# Altium schematic symbol library LINUX.SchLib: 132 symbols (part 3 of 4)
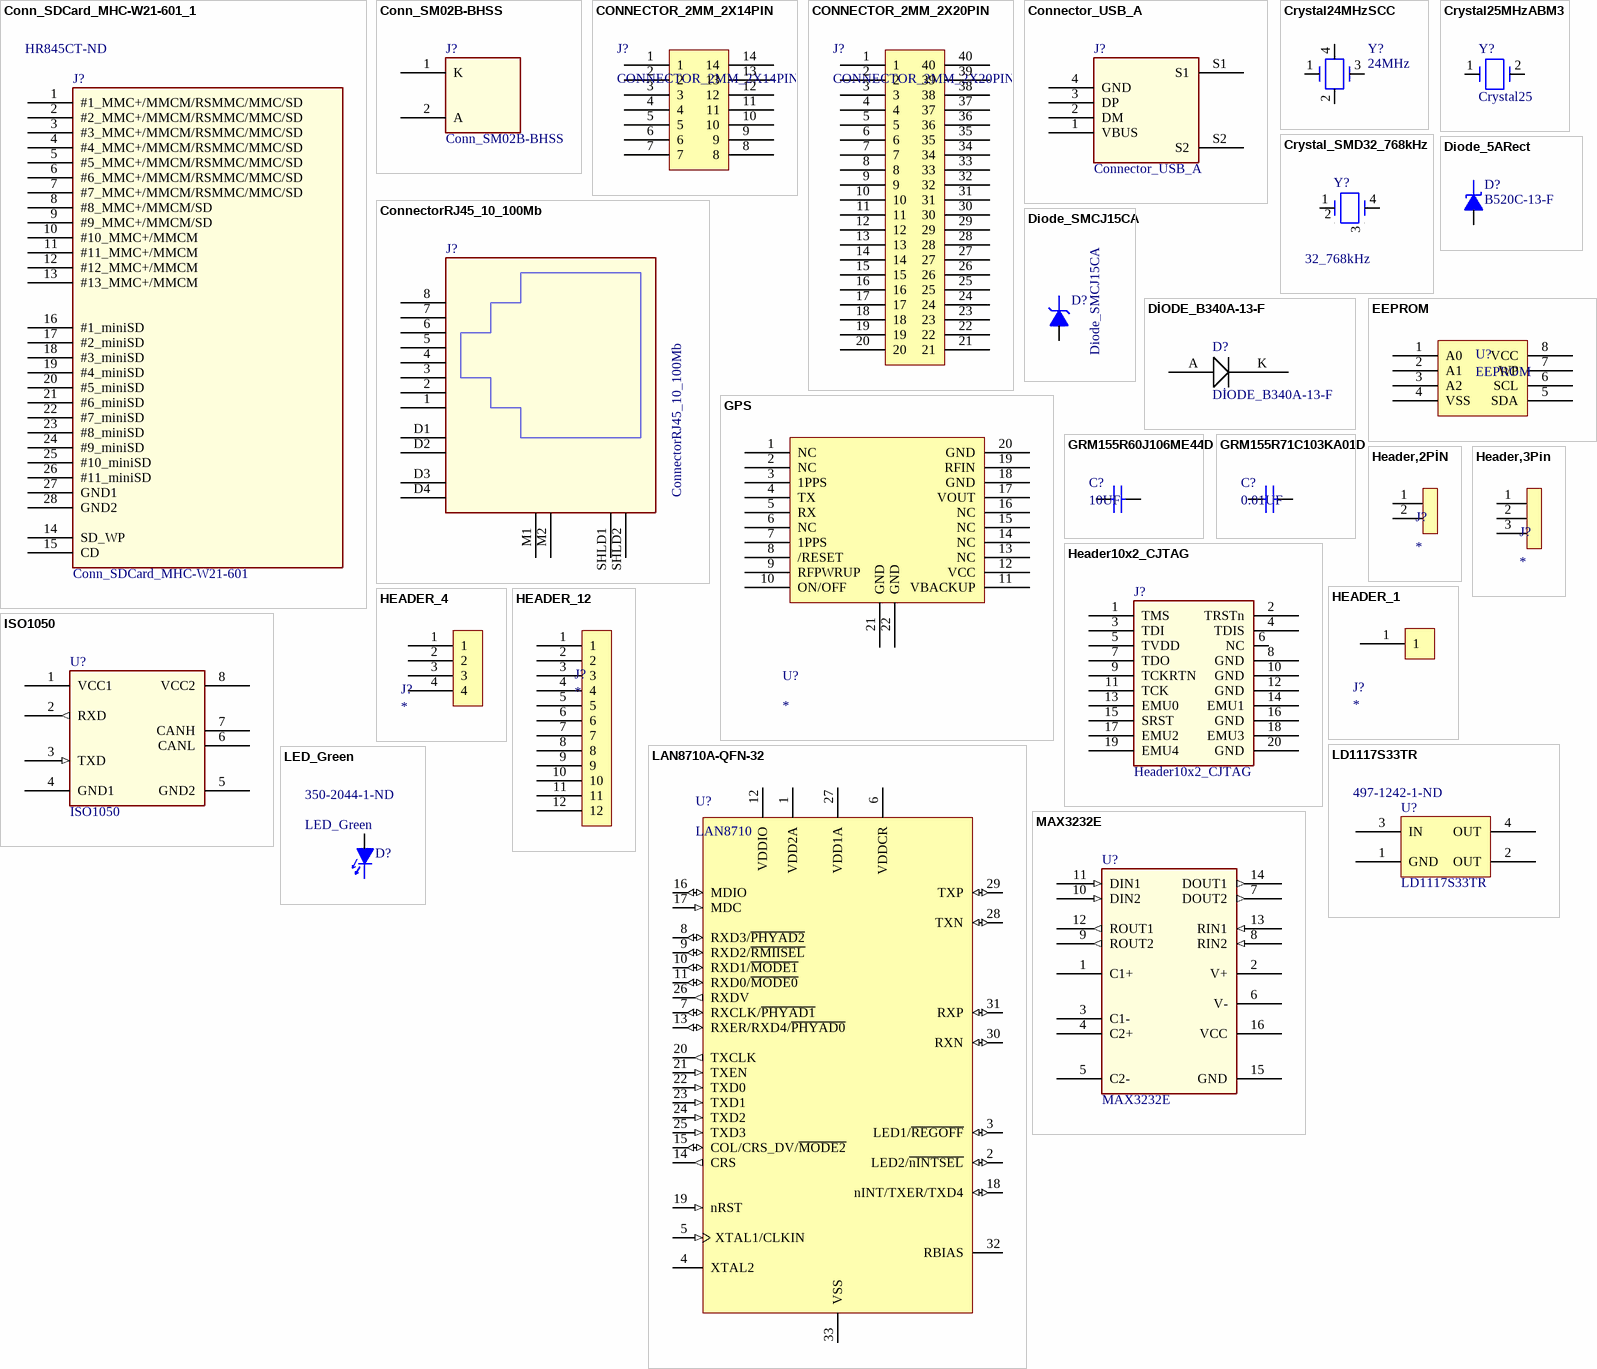
[diagram p9: symbols Conn_SDCard_MHC-W21-601_1 to MAX3232E]

## DİODE_B340A-13-F
designator D?
MULTICOMP - B340A-13-F - DIODE, RECTIFIER, 3A, 40V, DO-214AC; Diode Type: Schottky; Voltage - Forward (Vf) (Max) @ If: 500mV @ 3A; Speed: Fast Recovery =< 500ns, > 200mA (Io); Current - Reverse Leakage @ Vr: 500µA @ 40V; Capacitance @ Vr, F: 200pF @ 4V, 1MHz; Manufacturer: MULTICOMP; Manufacturer Part Number: B340A-13-F; RoHS: YES; ComponentLink1URL: http://www.farnell.com/datasheets/1693726.pdf; ComponentLink1Description: http://www.farnell.com/datasheets/1693726.pdf; Supplier 1: Digi-Key; Category: Discrete Semiconductor Products; Stock 1: 269603; Pricing 1: 1=0.47, 10=0.368, 25=0.31, 100=0.2527, 250=0.20932, 500=0.1729, 1000=0.1295, 2500=0.119 (USD); Packaging: Cut Tape (CT); Voltage - DC Reverse (Vr) (Max): 40V; Current - Average Rectified (Io): 3A; Reverse Recovery Time (trr): -; Mounting Type: Surface Mount; Package / Case: DO-214AC, SMA; Supplier Device Package: SMA; Operating Temperature - Junction: -55°C ~ 150°C; ComponentLink2URL: http://www.diodes.com/datasheets/ds30891.pdf; ComponentLink2Description: http://www.diodes.com/datasheets/ds30891.pdf; Supplier Part Number 1: B340A-FDICT-ND
footprint Diode
pins: A, K

## EEPROM
designator U?
Manufacturer: ON Semiconductor; Manufacturer Part Number: CAT24C256WI-GT3; Format - Memory: EEPROMs - Serial; Memory Size: 256K (32K x 8); Speed: 400kHz; Interface: I²C, 2-Wire Serial; Voltage - Supply: 1.8 V ~ 5.5 V; Supplier 1: Digi-Key; RoHS: RoHS Compliant; Category: Integrated Circuits (ICs); Stock 1: 33600; Pricing 1: 1=0.73, 10=0.616, 25=0.5396, 100=0.462, 250=0.40068, 500=0.33936, 1000=0.26163 (USD); Packaging: Cut Tape (CT); Memory Type: EEPROM; Operating Temperature: -40°C ~ 85°C; Package / Case: 8-SOIC (0.154", 3.90mm Width); Supplier Device Package: 8-SOIC; ComponentLink1URL: http://www.onsemi.com/pub_link/Collateral/CAT24C256-D.PDF; ComponentLink1Description: http://www.onsemi.com/pub_link/Collateral/CAT24C256-D.PDF; Supplier Part Number 1: CAT24C256WI-GT3OSCT-ND
footprint SOIC-8
pins: 1 A0, 2 A1, 3 A2, 4 VSS, 5 SDA, 6 SCL, 7 WP, 8 VCC

## GPS
designator U?
GPS; Supplier 1: Digi-Key; Supplier Part Number 1: RXM-GPS-R4-TCT-ND
footprint GPS
pins: 1 NC, 2 NC, 3 1PPS, 4 TX, 5 RX, 6 NC, 7 1PPS, 8 /RESET, 9 RFPWRUP, 10 ON/OFF, 11 VBACKUP, 12 VCC, 13 NC, 14 NC, 15 NC, 16 NC, 17 VOUT, 18 GND, 19 RFIN, 20 GND, 21 GND, 22 GND

## GRM155R60J106ME44D
designator C?, comment 10UF
Multilayer Ceramic Capacitors MLCC - SMD/SMT 10UF 6.3V 20% 0402; Manufacturer: Murata Electronics; Manufacturer Part Number: GRM155R60J106ME44D; Type: General Purpose MLCC; Case Height: 0.5 mm; Case Length: 1 mm; Dielectric: X5R; Temperature Coefficient / Code: +/- 15 %; Product Status: New at Mouser; Supplier 1: Mouser; Category: Multilayer Ceramic Capacitors MLCC - SMD/SMT; Stock 1: 560073; Pricing 1: 1=0.446, 10=0.304, 100=0.228, 500=0.224, 1000=0.216, 5000=0.208, 10000=0.157 (AUD); Capacitance: 10 uF; Operating Temperature Range: - 55 C to + 85 C; Package / Case: 0402 (1005 metric); Packaging: Reel; Product: General Type MLCCs; Series: GRM; Termination Style: SMD/SMT; Tolerance: 20 %; Voltage Rating DC: 6.3 V; Brand: Murata Electronics; Case Code - in: 0402; Case Code - mm: 1005; Case Width: 0.5 mm; Maximum Operating Temperature: + 85 C; Minimum Operating Temperature: - 55 C; Standard Pack Qty: 10000; Minimum Order Quantity: 1; Reeling: True; ComponentLink1URL: http://www.murata.com/products/catalog/pdf/c02e.pdf; ComponentLink1Description: http://www.murata.com/products/catalog/pdf/c02e.pdf; Supplier Part Number 1: 81-GRM155R60J106ME4D
footprint 0402
pins: 1, 2

## GRM155R71C103KA01D
designator C?, comment 0.01UF
Multilayer Ceramic Capacitors MLCC - SMD/SMT 0402 0.01uF 16volts X7R 10%; Manufacturer: Murata Electronics; Manufacturer Part Number: GRM155R71C103KA01D; Type: General Purpose MLCC; Voltage Rating DC: 16 V; Case Height: 0.5 mm; Case Length: 1 mm; Temperature Coefficient / Code: +/- 15 %; Supplier 1: Mouser; RoHS: RoHS Compliant; Category: Multilayer Ceramic Capacitors MLCC - SMD/SMT; Stock 1: 784820; Pricing 1: 1=0.135, 10=0.009, 100=0.005, 2500=0.004, 10000=0.004, 20000=0.003 (AUD); Capacitance: 0.01 uF; Operating Temperature Range: - 55 C to + 125 C; Package / Case: 0402 (1005 metric); Packaging: Reel; Product: General Type MLCCs; Series: GRM; Termination Style: SMD/SMT; Tolerance: 10 %; Brand: Murata Electronics; Case Code - in: 0402; Case Code - mm: 1005; Case Width: 0.5 mm; Dielectric: X7R; Maximum Operating Temperature: + 125 C; Minimum Operating Temperature: - 55 C; Product Category: Low & Medium Capacitance SMD Ceramic Chip Capacitors; Standard Pack Qty: 10000; RoHS - Mouser: Y; Minimum Order Quantity: 1; Reeling: True; ComponentLink1URL: http://www.murata.com/products/catalog/pdf/c02e.pdf; ComponentLink1Description: http://www.murata.com/products/catalog/pdf/c02e.pdf; Supplier Part Number 1: 81-GRM36X103K16
footprint 0402
pins: 1, 2

## Header10x2_CJTAG
designator J?
Dual Line Header 10x2pin Tin; TIIntPartnumber: 2H0039; MfrNum: FTR-110-03-G-D-06; PartName: HEADERCTIJTAG10x2Pin; Cost10K: 0.97; Cost100: 1.20; Vendor: Samtec; DescriptiveText: Dual Line Header 10x2pin Tin; Mfr: Samtec; Descriptive_Text: Dual Line Header 10x2pin Tin
footprint HEADER10X2
pins: 1 TMS, 2 TRSTn, 3 TDI, 4 TDIS, 5 TVDD, 6 NC, 7 TDO, 8 GND (power), 9 TCKRTN, 10 GND (power), 11 TCK, 12 GND (power), 13 EMU0, 14 EMU1, 15 SRST, 16 GND (power), 17 EMU2, 18 EMU3, 19 EMU4, 20 GND (power)

## Header,2PİN
designator J?
footprint C0603
pins: 1, 2

## Header,3Pin
designator J?
footprint C0603-3
pins: 1, 2, 3

## HEADER_1
designator J?
footprint HEADER_1
pins: 1

## HEADER_4
designator J?
footprint HEADER_4
pins: 1, 2, 3, 4

## HEADER_12
designator J?
footprint HEADER_12
pins: 1, 2, 3, 4, 5, 6, 7, 8, 9, 10, 11, 12

## ISO1050
designator U?
Isolated CAN Transceiver; TIIntPartnumber: 1A0214; MfrNum: ISO1050DUB; Mfr: TI; Manufacturer: Texas Instruments; Cost10K: 1.91; Cost100: 3.41; Vendor: Digikey; Number of Drivers/Receivers: 1/1; Duplex: Half; Receiver Hysteresis: 150mV; Data Rate: 1Mbps; Voltage - Supply: 3 V ~ 5.5 V; Descriptive_Text: Isolated CAN Transceiver; PartName: ISO1050; DescriptiveText: Isolated CAN Transceiver; Supplier 1: Digi-Key; Manufacturer Part Number: ISO1050DUB; RoHS: RoHS Compliant; Category: Integrated Circuits (ICs); Stock 1: 3315; Pricing 1: 1=5.8, 10=5.175, 25=4.6576, 100=4.2435, 250=3.82952, 500=3.4362, 750=3.105, 1000=2.5875 (USD); Packaging: Tube; Type: Transceiver; Protocol: CAN; Operating Temperature: -55°C ~ 105°C; Mounting Type: Surface Mount; Package / Case: 8-SMD, Gull Wing; Supplier Device Package: 8-SOP; ComponentLink1URL: http://www.ti.com/lit/ds/symlink/iso1050.pdf; ComponentLink1Description: http://www.ti.com/lit/ds/symlink/iso1050.pdf; Supplier Part Number 1: 296-33295-5-ND
footprint so8_w_dub (SO8_W_DUB)
pins: 1 VCC1 (power), 2 RXD (out), 3 TXD (in), 4 GND1 (power), 5 GND2 (power), 6 CANL, 7 CANH, 8 VCC2 (power)

## LAN8710A-QFN-32
designator U?, comment LAN8710
Manufacturer: Microchip Technology; Manufacturer Part Number: LAN8710AI-EZK; Ethernet Connection Type: 10/100 Base-T; Standard Supported: 802.3, 802.3u; Supply Voltage - Max: 3.6 V; Supply Voltage - Min: 1.6 V; Supplier 1: Mouser; RoHS: RoHS Compliant; Category: Ethernet ICs; Stock 1: 10327; Pricing 1: 1=2.35, 10=2.03, 25=1.69, 100=1.54 (AUD); Package / Case: QFN-32; Packaging: Tray; Product: Ethernet Transceivers; Type: Single Chip PHY Transceiver; Brand: Microchip Technology; Mounting Style: SMD/SMT; Maximum Operating Temperature: + 85 C; Minimum Operating Temperature: - 40 C; Product Category: Ethernet Controllers; Standard Pack Qty: 490; RoHS - Mouser: Y; Minimum Order Quantity: 1; Reeling: False; ComponentLink1URL: http://www.mouser.com/ds/2/268/8710a-320908.pdf; ComponentLink1Description: http://www.mouser.com/ds/2/268/8710a-320908.pdf; Supplier Part Number 1: 886-LAN8710AI-EZK
footprint MCHP-QFN-32-5x5_V1 (QFN, 32-Leads, Body 5x5mm, Pitch 0.5mm, Thermal Pad 3.2x3.2mm)
pins: 1 VDD2A (power) "+3.3V Analog Port Power to Channel 2 and the  internal regulator", 2 LED2/~{nINTSEL} (io), 3 LED1/~{REGOFF} (io), 4 XTAL2 "External crystal output", 5 XTAL1/CLKIN (in), 6 VDDCR (power) "Supplied by the on-chip regulator unless  configured for regulator off mode via the  REGOFF configuration strap.", 7 RXCLK/~{PHYAD1} (io), 8 RXD3/~{PHYAD2} (io), 9 RXD2/~{RMIISEL} (io), 10 RXD1/~{MODE1} (io), 11 RXD0/~{MODE0} (io), 12 VDDIO (power) "+1.6V to +3.6V variable I/O power", 13 RXER/RXD4/~{PHYAD0} (io), 14 CRS (out) "This signal indicates detection of a carrier in MII Mode.", 15 COL/CRS_DV/~{MODE2} (io), 16 MDIO (io) "Serial Management Interface data input/output", 17 MDC (in) "Serial Management Interface clock", 18 nINT/TXER/TXD4 (io), 19 nRST (in) "System reset. This signal is active low.", 20 TXCLK (out) "Used to latch data from the MAC into the  transceiver", 21 TXEN (in) "Indicates that valid transmission data is present  on TXD[3:0]. In RMII Mode, only TXD[1:0]  provide valid data.", 22 TXD0 (in) "The MAC transmits data to the transceiver using  this signal in all modes.", 23 TXD1 (in) "The MAC transmits data to the transceiver using  this signal in all modes.", 24 TXD2 (in) "The MAC transmits data to the transceiver using  this signal in MII Mode.", 25 TXD3 (in) "The MAC transmits data to the transceiver using  this signal in MII Mode.", 26 RXDV (out) "Indicates that recovered and decoded data is  available on the RXD pins.", 27 VDD1A (power) "+3.3V Analog Port Power to Channel 1", 28 TXN (io) "Transmit/Receive Negative Channel 1", 29 TXP (io) "Transmit/Receive Positive Channel 1", 30 RXN (io) "Transmit/Receive Negative Channel 2", 31 RXP (io) "Transmit/Receive Positive Channel 2", 32 RBIAS "This pin requires connection of a 12.1k ohm (1%)  resistor to ground.", 33 VSS (power) "Exposed pad (VSS) on bottom of package must be connected to ground"

## LD1117S33TR
designator U?  Supplier Part Number 1: 497-1242-1-ND
STMICROELECTRONICS - LD1117S33TR - IC, LDO VOLT REG, 3.3V, 0.8A, SOT-223-3; Regulator Topology: Positive Fixed; Current - Output: 800mA; Voltage - Dropout (Typical): 1.1V @ 800mA; Number of Regulators: 1; Voltage - Input: Up to 15V; Manufacturer: STMICROELECTRONICS; Manufacturer Part Number: LD1117S33TR; RoHS: YES; ComponentLink1URL: http://www.st.com/internet/com/TECHNICAL_RESOURCES/TECHNICAL_LITERATURE/PACKING_INFORMATION/CD00148931.pdf; ComponentLink1Description: http://www.st.com/internet/com/TECHNICAL_RESOURCES/TECHNICAL_LITERATURE/PACKING_INFORMATION/CD00148931.pdf; ComponentLink2URL: http://www.farnell.com/datasheets/1776449.pdf; ComponentLink2Description: http://www.farnell.com/datasheets/1776449.pdf; ComponentLink3URL: http://www.farnell.com/cad/1724370.zip; ComponentLink3Description: http://www.farnell.com/cad/1724370.zip; Supplier 1: Digi-Key; Category: Integrated Circuits (ICs); Stock 1: 36493; Pricing 1: 1=0.55, 10=0.434, 25=0.366, 100=0.2983, 250=0.24704, 500=0.20408, 1000=0.14985 (USD); Packaging: Cut Tape (CT); Voltage - Output: 3.3V; Current - Limit (Min): -; Operating Temperature: 0°C ~ 125°C; Mounting Type: Surface Mount; Package / Case: TO-261-4, TO-261AA; Supplier Device Package: SOT-223; ComponentLink4URL: http://www.st.com/web/en/resource/technical/document/datasheet/CD00000544.pdf; ComponentLink4Description: http://www.st.com/web/en/resource/technical/document/datasheet/CD00000544.pdf
footprint SOT-223_L (SOT223, 4-Leads, Body 6.5x3.5mm, Pitch 2.3mm, Lead Span 7mm, IPC High Density)
pins: 1 GND, 2 OUT, 3 IN, 4 OUT

## LED_Green
designator D?  Supplier Part Number 1: 350-2044-1-ND
LED Green SMD 20mA 2V 0805; TIIntPartnumber: 1F0008; MfrNum: 598-8170-107F; Mfr: Dialight; PartName: LEDGreen2x1.5; Cost10K: 0.052; Cost100: 0.081; Vendor: Digikey; Wavelength - Dominant: 566nm; Millicandela Rating: 20mcd; Viewing Angle: 140°; Lens Type: Clear; Lens Style/Size: Rectangle with Flat Top, 1.4mm x 1.25mm; DescriptiveText: LED Green SMD 20mA 2V 0805; Descriptive_Text: LED Green SMD 20mA 2V 0805; Supplier 1: Digi-Key; Manufacturer: Dialight; Manufacturer Part Number: 598-8170-107F; RoHS: RoHS Compliant; Category: Optoelectronics; Stock 1: 91030; Pricing 1: 1=0.42, 10=0.31, 25=0.248, 100=0.1643, 250=0.1364, 500=0.0992, 1000=0.0775 (USD); Packaging: Cut Tape (CT); Color: Green; Wavelength - Peak: -; Voltage - Forward (Vf) (Typ): 2V; Current - Test: 20mA; Package / Case: 0805 (2012 Metric); Size / Dimension: 2.00mm L x 1.25mm W; Height: 0.70mm; Mounting Type: Surface Mount; Luminous Flux @ Current - Test: -; ComponentLink1URL: http://media.digikey.com/pdf/Data%20Sheets/Dialight%20PDFs/598_Series_0805_Pkg.pdf; ComponentLink1Description: http://media.digikey.com/pdf/Data%20Sheets/Dialight%20PDFs/598_Series_0805_Pkg.pdf
footprint LED_0805
pins: 1 Cathode, 2 Anode

## MAX3232E
designator U?
Dual Channel RS-232 Line Driver/Receiver; TIIntPartnumber: 1A0213; MfrNum: MAX3232ECD; Mfr: TI; Manufacturer: Texas Instruments; Manufacturer Part Number: MAX3232CDWR; Cost10K: 0.81; Cost100: 1.47; Vendor: Digikey; Protocol: RS232; Number of Drivers/Receivers: 2/2; Duplex: Full; Receiver Hysteresis: 300mV; Data Rate: 250kbps; Voltage - Supply: 3 V ~ 5.5 V; DescriptiveText: Dual Channel RS-232 Line Driver/Receiver; PartName: MAX3232E; Descriptive_Text: Dual Channel RS-232 Line Driver/Receiver; Supplier 1: Digi-Key; RoHS: RoHS Compliant; Category: Integrated Circuits (ICs); Stock 1: 4145; Pricing 1: 1=1.91, 10=1.728, 25=1.548, 100=1.392, 250=1.236, 500=1.08, 750=0.978, 1000=0.894 (USD); Packaging: Cut Tape (CT); Type: Transceiver; Operating Temperature: 0°C ~ 70°C; Mounting Type: Surface Mount; Package / Case: 16-SOIC (0.295", 7.50mm Width); Supplier Device Package: 16-SOIC; ComponentLink1URL: http://www.ti.com/lit/ds/symlink/max3232.pdf; ComponentLink1Description: http://www.ti.com/lit/ds/symlink/max3232.pdf; Supplier Part Number 1: 296-13095-1-ND
footprint TI-DW16_M (SOIC, 16-Leads, Body 10.3x7.5mm, Pitch 1.27mm, IPC Low Density)
pins: 1 C1+, 2 V+, 3 C1-, 4 C2+, 5 C2-, 6 V-, 7 DOUT2 (out), 8 RIN2 (in), 9 ROUT2 (out), 10 DIN2 (in), 11 DIN1 (in), 12 ROUT1 (out), 13 RIN1 (in), 14 DOUT1 (out), 15 GND (power), 16 VCC (power)

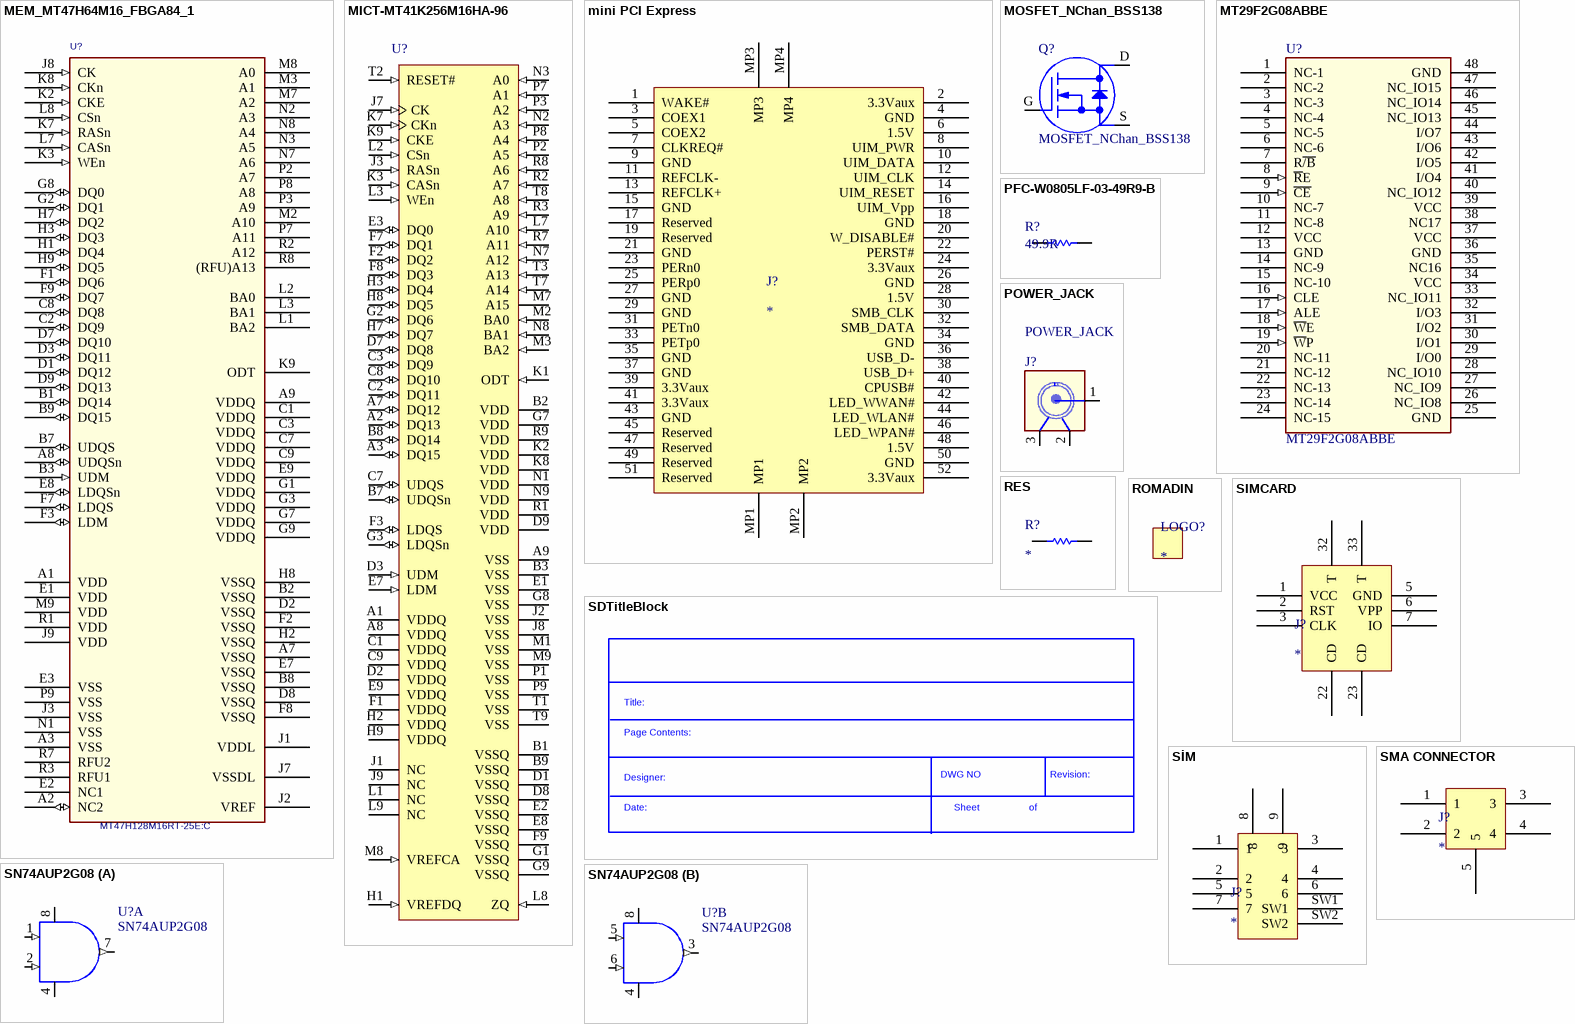
[diagram p5: symbols MEM_MT47H64M16_FBGA84_1 to SN74AUP2G08]

## MEM_MT47H64M16_FBGA84_1
designator U?, comment MT47H128M16RT-25E:C
DDR2 SDRAM 2Gb (256Mx8); PART_NUMBER: MEM_MT4764M16_FBGA84; TIIntPartnumber: 1A0290; MfrNum: MT47H256M8EB-25E; Mfr: Micron; PartName: MT47H256M8; Cost10K: 8.91; Cost100: 12.00; Vendor: Arrow; Supplier 1: Digi-Key; Supplier Part Number 1: 557-1535-ND
footprint MICT-RT-84 (BGA, 84-Balls, Body 12.5x9mm, Pitch 0.8mm)
pins: A1 VDD (power), A2 NC2 (io), A3 VSS (power), A7 VSSQ (power), A8 UDQSn (io), A9 VDDQ (power), B1 DQ14 (io), B2 VSSQ (power), B3 UDM (in), B7 UDQS (io), B8 VSSQ (power), B9 DQ15 (io), C1 VDDQ (power), C2 DQ9 (io), C3 VDDQ (power), C7 VDDQ (power), C8 DQ8 (io), C9 VDDQ (power), D1 DQ12 (io), D2 VSSQ (power), D3 DQ11 (io), D7 DQ10 (io), D8 VSSQ (power), D9 DQ13 (io), E1 VDD (power), E2 NC1, E3 VSS (power), E7 VSSQ (power), E8 LDQSn (io), E9 VDDQ (power), F1 DQ6 (io), F2 VSSQ (power), F3 LDM (io), F7 LDQS (io), F8 VSSQ (power), F9 DQ7 (io), G1 VDDQ (power), G2 DQ1 (io), G3 VDDQ (power), G7 VDDQ (power), G8 DQ0 (io), G9 VDDQ (power), H1 DQ4 (io), H2 VSSQ (power), H3 DQ3 (io), H7 DQ2 (io), H8 VSSQ (power), H9 DQ5 (io), J1 VDDL (power), J2 VREF (power), J3 VSS (power), J7 VSSDL (power), J8 CK (in), J9 VDD (power), K2 CKE (in), K3 WEn (in), K7 RASn (in), K8 CKn (in), K9 ODT, L1 BA2, L2 BA0, L3 BA1, L7 CASn (in), L8 CSn (in), M2 A10, M3 A1, M7 A2, M8 A0, M9 VDD (power), N1 VSS (power), N2 A3, N3 A5, N7 A6, N8 A4, P2 A7, P3 A9, P7 A11, P8 A8, P9 VSS (power), R1 VDD (power), R2 A12, R3 RFU1, R7 RFU2, R8 (RFU)A13

## MICT-MT41K256M16HA-96
designator U?
MICT-MT41K256M16HA-96
footprint MICT-HA-96 (BGA, 96-Balls, Body 14x9mm, Pitch 0.8mm)
pins: A1 VDDQ (power) "DQ power supply: 1.35V, 1.283-1.45V operational; compatible to 1.5V operation.", A2 DQ13 (io) "Input with write data. DQS is center-aligned to write data.", A3 DQ15 (io) "Data input/output: Upper byte of bidirectional data bus for the x16 configuration. DQ[15:8] are referenced to VREFDQ.", A7 DQ12 (io) "Data input/output: Upper byte of bidirectional data bus for the x16 configuration. DQ[15:8] are referenced to VREFDQ.", A8 VDDQ (power) "DQ power supply: 1.35V, 1.283-1.45V operational; compatible to 1.5V operation.", A9 VSS (power) "Ground.", B1 VSSQ (power) "DQ ground: Isolated on the device for improved noise immunity.", B2 VDD (power) "Power supply: 1.35V, 1.283-1.45V operational; compatible to 1.5V operation.", B3 VSS (power) "DQ ground: Isolated on the device for improved noise immunity.", B7 UDQSn (io) "Upper byte data strobe: Output with read data. Edge-aligned with read data. Input with write data. DQS is center-aligned to write data.", B8 DQ14 (io) "Data input/output: Upper byte of bidirectional data bus for the x16 configuration. DQ[15:8] are referenced to VREFDQ.", B9 VSSQ (power) "DQ ground: Isolated on the device for improved noise immunity.", C1 VDDQ (power) "DQ power supply: 1.35V, 1.283-1.45V operational; compatible to 1.5V operation.", C2 DQ11 (io) "Data input/output: Upper byte of bidirectional data bus for the x16 configuration. DQ[15:8] are referenced to VREFDQ.", C3 DQ9 (io) "Data input/output: Upper byte of bidirectional data bus for the x16 configuration. DQ[15:8] are referenced to VREFDQ.", C7 UDQS (io) "Upper byte data strobe: Output with read data. Edge-aligned with read data. Input with write data. DQS is center-aligned to write data.", C8 DQ10 (io) "Data input/output: Upper byte of bidirectional data bus for the x16 configuration. DQ[15:8] are referenced to VREFDQ.", C9 VDDQ (power) "DQ power supply: 1.35V, 1.283-1.45V operational; compatible to 1.5V operation.", D1 VSSQ (power) "DQ ground: Isolated on the device for improved noise immunity.", D2 VDDQ (power) "DQ power supply: 1.35V, 1.283-1.45V operational; compatible to 1.5V operation.", D3 UDM (in) "Input data mask: UDM is an upper-byte, input mask signal for write data. Upperbyte input data is masked when UDM is sampled HIGH along with that input data during a WRITE access. Although the UDM ball is input-only, the UDM (See Datasheet)", D7 DQ8 (io) "Data input/output: Upper byte of bidirectional data bus for the x16 configuration. DQ[15:8] are referenced to VREFDQ.", D8 VSSQ (power) "DQ ground: Isolated on the device for improved noise immunity.", D9 VDD (power) "Power supply: 1.35V, 1.283-1.45V operational; compatible to 1.5V operation.", E1 VSS (power) "Ground.", E2 VSSQ (power) "DQ ground: Isolated on the device for improved noise immunity.", E3 DQ0 (io) "Data input/output: Lower byte of bidirectional data bus for the x16 configuration. DQ[7:0] are referenced to VREFDQ.", E7 LDM (in) "Input data mask: LDM is a lower-byte, input mask signal for write data. Lower-byte input data is masked when LDM is sampled HIGH along with the input data during a write access. Although the LDM ball is input-only, the LDM (See Datasheet)", E8 VSSQ (power) "DQ ground: Isolated on the device for improved noise immunity.", E9 VDDQ (power) "DQ power supply: 1.35V, 1.283-1.45V operational; compatible to 1.5V operation.", F1 VDDQ (power) "DQ power supply: 1.35V, 1.283-1.45V operational; compatible to 1.5V operation.", F2 DQ2 (io) "Data input/output: Lower byte of bidirectional data bus for the x16 configuration. DQ[7:0] are referenced to VREFDQ.", F3 LDQS (io) "Lower byte data strobe: Output with read data. Edge-aligned with read data. Input with write data. Center-aligned to write data.", F7 DQ1 (io) "Data input/output: Lower byte of bidirectional data bus for the x16 configuration. DQ[7:0] are referenced to VREFDQ.", F8 DQ3 (io) "Data input/output: Lower byte of bidirectional data bus for the x16 configuration. DQ[7:0] are referenced to VREFDQ.", F9 VSSQ (power) "DQ ground: Isolated on the device for improved noise immunity.", G1 VSSQ (power) "DQ ground: Isolated on the device for improved noise immunity.", G2 DQ6 (io) "Data input/output: Lower byte of bidirectional data bus for the x16 configuration. DQ[7:0] are referenced to VREFDQ.", G3 LDQSn (io) "Lower byte data strobe: Output with read data. Edge-aligned with read data. Input with write data. Center-aligned to write data.", G7 VDD (power) "Power supply: 1.35V, 1.283-1.45V operational; compatible to 1.5V operation.", G8 VSS (power) "Ground.", G9 VSSQ (power) "DQ ground: Isolated on the device for improved noise immunity.", H1 VREFDQ (in) "Reference voltage for data: VREFDQ must be maintained at all times (excluding self refresh) for proper device operation.", H2 VDDQ (power) "DQ power supply: 1.35V, 1.283-1.45V operational; compatible to 1.5V operation.", H3 DQ4 (io) "Data input/output: Lower byte of bidirectional data bus for the x16 configuration. DQ[7:0] are referenced to VREFDQ.", H7 DQ7 (io) "Data input/output: Lower byte of bidirectional data bus for the x16 configuration. DQ[7:0] are referenced to VREFDQ.", H8 DQ5 (io) "Data input/output: Lower byte of bidirectional data bus for the x16 configuration. DQ[7:0] are referenced to VREFDQ.", H9 VDDQ (power) "DQ power supply: 1.35V, 1.283-1.45V operational; compatible to 1.5V operation.", J1 NC "No connect: These balls should be left unconnected (the ball has no connection to the DRAM or to other balls).", J2 VSS (power) "Ground.", J3 RASn (in) "Command inputs: RAS#, CAS#, and WE# (along with CS#) define the command being entered and are referenced to VREFCA.", J7 CK (in) "Clock: CK and CK# are differential clock inputs. All control and address input signals are sampled on the crossing of the positive edge of CK and the negative edge of CK#. Output data strobe (DQS, DQS#) is referenced to the (See Datasheet)", J8 VSS (power) "Ground.", J9 NC "No connect: These balls should be left unconnected (the ball has no connection to the DRAM or to other balls).", K1 ODT (in) "On-die termination: ODT enables (registered HIGH) and disables (registered LOW) termination resistance internal to the DDR3 SDRAM. When enabled in normal operation, ODT is only applied to each of the following balls: (See Datasheet)", K2 VDD (power) "Power supply: 1.35V, 1.283-1.45V operational; compatible to 1.5V operation.", K3 CASn (in) "Command inputs: RAS#, CAS#, and WE# (along with CS#) define the command being entered and are referenced to VREFCA.", K7 CKn (in) "Clock: CK and CK# are differential clock inputs. All control and address input signals are sampled on the crossing of the positive edge of CK and the negative edge of CK#. Output data strobe (DQS, DQS#) is referenced to the (See Datasheet)", K8 VDD (power) "Power supply: 1.35V, 1.283-1.45V operational; compatible to 1.5V operation.", K9 CKE (in) "Clock enable: CKE enables (registered HIGH) and disables (registered LOW) internal circuitry and clocks on the DRAM. The specific circuitry that is enabled/ disabled is dependent upon the DDR3 SDRAM configuration and (See Datasheet)", L1 NC "No connect: These balls should be left unconnected (the ball has no connection to the DRAM or to other balls).", L2 CSn (in) "Chip select: CS# enables (registered LOW) and disables (registered HIGH) the command decoder. All commands are masked when CS# is registered HIGH. CS# provides for external rank selection on systems with multiple ranks. CS# (See Datasheet)", L3 WEn (in) "Command inputs: RAS#, CAS#, and WE# (along with CS#) define the command being entered and are referenced to VREFCA.", L7 A10 (in) "Address inputs: Provide the row address for ACTIVATE commands, and the column address and auto precharge bit (A10) for READ/WRITE commands, to select one location out of the memory array in the respective bank. A10 sampled (See Datasheet)", L8 ZQ (in) "External reference ball for output drive calibration: This ball is tied to an external 240ohm resistor (RZQ), which is tied to VSSQ.", L9 NC "No connect: These balls should be left unconnected (the ball has no connection to the DRAM or to other balls).", M1 VSS (power) "Ground.", M2 BA0 (in) "Bank address inputs: BA[2:0] define the bank to which an ACTIVATE, READ, WRITE, or PRECHARGE command is being applied. BA[2:0] define which mode register (MR0, MR1, MR2, or MR3) is loaded during the LOAD MODE command. (See Datasheet)", M3 BA2 (in) "Bank address inputs: BA[2:0] define the bank to which an ACTIVATE, READ, WRITE, or PRECHARGE command is being applied. BA[2:0] define which mode register (MR0, MR1, MR2, or MR3) is loaded during the LOAD MODE command. (See Datasheet)", M7 A15 "No connect: These balls should be left unconnected (the ball has no connection to the DRAM or to other balls).", M8 VREFCA (in) "Reference voltage for control, command, and address: VREFCA must be maintained at all times (including self refresh) for proper device operation.", M9 VSS (power) "Ground.", N1 VDD (power) "Power supply: 1.35V, 1.283-1.45V operational; compatible to 1.5V operation.", N2 A3 (in) "Address inputs: Provide the row address for ACTIVATE commands, and the column address and auto precharge bit (A10) for READ/WRITE commands, to select one location out of the memory array in the respective bank. A10 sampled (See Datasheet)", N3 A0 (in) "Address inputs: Provide the row address for ACTIVATE commands, and the column address and auto precharge bit (A10) for READ/WRITE commands, to select one location out of the memory array in the respective bank. A10 sampled (See Datasheet)", N7 A12 (in) "Address inputs: Provide the row address for ACTIVATE commands, and the column address and auto precharge bit (A10) for READ/WRITE commands, to select one location out of the memory array in the respective bank. A10 sampled (See Datasheet)", N8 BA1 (in) "Bank address inputs: BA[2:0] define the bank to which an ACTIVATE, READ, WRITE, or PRECHARGE command is being applied. BA[2:0] define which mode register (MR0, MR1, MR2, or MR3) is loaded during the LOAD MODE command. (See Datasheet)", N9 VDD (power) "Power supply: 1.35V, 1.283-1.45V operational; compatible to 1.5V operation.", P1 VSS (power) "Ground.", P2 A5 (in) "Address inputs: Provide the row address for ACTIVATE commands, and the column address and auto precharge bit (A10) for READ/WRITE commands, to select one location out of the memory array in the respective bank. A10 sampled (See Datasheet)", P3 A2 (in) "Address inputs: Provide the row address for ACTIVATE commands, and the column address and auto precharge bit (A10) for READ/WRITE commands, to select one location out of the memory array in the respective bank. A10 sampled (See Datasheet)", P7 A1 (in) "Address inputs: Provide the row address for ACTIVATE commands, and the column address and auto precharge bit (A10) for READ/WRITE commands, to select one location out of the memory array in the respective bank. A10 sampled (See Datasheet)", P8 A4 (in) "Address inputs: Provide the row address for ACTIVATE commands, and the column address and auto precharge bit (A10) for READ/WRITE commands, to select one location out of the memory array in the respective bank. A10 sampled (See Datasheet)", P9 VSS (power) "Ground.", R1 VDD (power) "Power supply: 1.35V, 1.283-1.45V operational; compatible to 1.5V operation.", R2 A7 (in) "Address inputs: Provide the row address for ACTIVATE commands, and the column address and auto precharge bit (A10) for READ/WRITE commands, to select one location out of the memory array in the respective bank. A10 sampled (See Datasheet)", R3 A9 (in) "Address inputs: Provide the row address for ACTIVATE commands, and the column address and auto precharge bit (A10) for READ/WRITE commands, to select one location out of the memory array in the respective bank. A10 sampled (See Datasheet)", R7 A11 (in) "Address inputs: Provide the row address for ACTIVATE commands, and the column address and auto precharge bit (A10) for READ/WRITE commands, to select one location out of the memory array in the respective bank. A10 sampled (See Datasheet)", R8 A6 (in) "Address inputs: Provide the row address for ACTIVATE commands, and the column address and auto precharge bit (A10) for READ/WRITE commands, to select one location out of the memory array in the respective bank. A10 sampled (See Datasheet)", R9 VDD (power) "Power supply: 1.35V, 1.283-1.45V operational; compatible to 1.5V operation.", T1 VSS (power) "Ground.", T2 RESET# (in) "Reset: RESET# is an active LOW CMOS input referenced to VSS. The RESET# input receiver is a CMOS input defined as a rail-to-rail signal with DC HIGH >= 0.8 x VDD and DC LOW =< 0.2 x VDDQ. RESET# assertion and desertion are (See Datasheet)", T3 A13 (in) "Address inputs: Provide the row address for ACTIVATE commands, and the column address and auto precharge bit (A10) for READ/WRITE commands, to select one location out of the memory array in the respective bank. A10 sampled (See Datasheet)", T7 A14 (in) "Address inputs: Provide the row address for ACTIVATE commands, and the column address and auto precharge bit (A10) for READ/WRITE commands, to select one location out of the memory array in the respective bank. A10 sampled (See Datasheet)", T8 A8 (in) "Address inputs: Provide the row address for ACTIVATE commands, and the column address and auto precharge bit (A10) for READ/WRITE commands, to select one location out of the memory array in the respective bank. A10 sampled (See Datasheet)", T9 VSS (power) "Ground."

## mini PCI Express
designator J?
PCI EXSPRESS; Supplier 1: Digi-Key; Supplier Part Number 1: WM3471CT-ND
footprint GSM (Board-to-Board Connector, SMT, Right Angle, Pitch 0.8mm, 52-Position, Female)
pins: 1 WAKE#, 2 3.3Vaux, 3 COEX1, 4 GND, 5 COEX2, 6 1.5V, 7 CLKREQ#, 8 UIM_PWR, 9 GND, 10 UIM_DATA, 11 REFCLK-, 12 UIM_CLK, 13 REFCLK+, 14 UIM_RESET, 15 GND, 16 UIM_Vpp, 17 Reserved, 18 GND, 19 Reserved, 20 W_DISABLE#, 21 GND, 22 PERST#, 23 PERn0, 24 3.3Vaux, 25 PERp0, 26 GND, 27 GND, 28 1.5V, 29 GND, 30 SMB_CLK, 31 PETn0, 32 SMB_DATA, 33 PETp0, 34 GND, 35 GND, 36 USB_D-, 37 GND, 38 USB_D+, 39 3.3Vaux, 40 CPUSB#, 41 3.3Vaux, 42 LED_WWAN#, 43 GND, 44 LED_WLAN#, 45 Reserved, 46 LED_WPAN#, 47 Reserved, 48 1.5V, 49 Reserved, 50 GND, 51 Reserved, 52 3.3Vaux, MP1, MP2, MP3, MP4

## MOSFET_NChan_BSS138
designator Q?
MOSFET Nchan 50V 200mA; TIIntPartnumber: 1Q0019; MfrNum: BSS138-7-F; Mfr: Diodes Inc.; Manufacturer: Diodes Incorporated; Cost10K: 0.128; Cost100: 0.18; Vendor: Digikey; TN: 289-0091-000; FET Type: MOSFET N-Channel, Metal Oxide; FET Feature: Logic Level Gate; Current - Continuous Drain (Id) @ 25°C: 200mA (Ta); Rds On (Max) @ Id, Vgs: 3.5 Ohm @ 220mA, 10V; Vgs(th) (Max) @ Id: 1.5V @ 250µA; Input Capacitance (Ciss) @ Vds: 50pF @ 10V; Power - Max: 300mW; Descriptive_Text: MOSFET Nchan 50V 200mA; PartName: MOSFET_NChan_BSS138; DescriptiveText: MOSFET Nchan 50V 200mA; Supplier 1: Digi-Key; Manufacturer Part Number: BSS138-7-F; RoHS: RoHS Compliant; Category: Discrete Semiconductor Products; Stock 1: 169479; Pricing 1: 1=0.35, 10=0.322, 25=0.2316, 100=0.1803, 250=0.11324, 500=0.0965, 1000=0.06575 (USD); Packaging: Cut Tape (CT); Drain to Source Voltage (Vdss): 50V; Gate Charge (Qg) @ Vgs: -; Mounting Type: Surface Mount; Package / Case: TO-236-3, SC-59, SOT-23-3; Supplier Device Package: SOT-23-3; ComponentLink1URL: http://www.diodes.com/datasheets/ds30144.pdf; ComponentLink1Description: http://www.diodes.com/datasheets/ds30144.pdf; Supplier Part Number 1: BSS138-FDICT-ND
footprint SOT23-3
pins: D DRAIN, G GATE, S SOURCE

## MT29F2G08ABBE
designator U?
NAND 2Gb Flash Memory x08 width 3.3V; TIIntPartnumber: 1A0255; MfrNum: MT29F2G08ABAEAWP; Mfr: Micron; Cost10K: 3.12; Cost100: 7.1; Vendor: Arrow; DescriptiveText: NAND 2Gb Flash Memory x08 width 3.3V; PartName: MT29F2G08AB; Descriptive_Text: NAND 2Gb Flash Memory x08 width 3.3V; Supplier 1: Digi-Key; Supplier Part Number 1: 557-1487-1-ND
footprint skt-tsop48sm (SKT-TSOP48SM)
pins: 1 NC-1, 2 NC-2, 3 NC-3, 4 NC-4, 5 NC-5, 6 NC-6, 7 R~{/B} (oc), 8 ~{R}E (in), 9 ~{CE} (in), 10 NC-7, 11 NC-8, 12 VCC (power), 13 GND (power), 14 NC-9, 15 NC-10, 16 CLE (in), 17 ALE (in), 18 ~{W}E (in), 19 ~{W}P (in), 20 NC-11, 21 NC-12, 22 NC-13, 23 NC-14, 24 NC-15, 25 GND (power), 26 NC_IO8, 27 NC_IO9, 28 NC_IO10, 29 I/O0 (hiz), 30 I/O1 (hiz), 31 I/O2 (hiz), 32 I/O3 (hiz), 33 NC_IO11, 34 VCC (power), 35 NC16, 36 GND (power), 37 VCC (power), 38 NC17, 39 VCC (power), 40 NC_IO12, 41 I/O4 (hiz), 42 I/O5 (hiz), 43 I/O6 (hiz), 44 I/O7 (hiz), 45 NC_IO13, 46 NC_IO14, 47 NC_IO15, 48 GND (power)

## PFC-W0805LF-03-49R9-B
designator R?, comment 49.9R
Thin Film Resistors - SMD 49.9OHMS .1% 25ppm; Manufacturer: IRC / TT Electronics; Manufacturer Part Number: PFC-W0805LF-03-49R9-B; Power Rating: 250 mW (1/4 W); Temperature Coefficient: 25 PPM / C; Tolerance: 0.1 %; Voltage Rating: 100 V; Case Height: 0.5 mm; Case Length: 2.05 mm; Case Width: 1.27 mm; Supplier 1: Mouser; RoHS: RoHS Compliant; Category: Thin Film Resistors - SMD; Stock 1: 1536; Pricing 1: 1=1.89, 50=1.76, 100=1.49, 500=1.22, 1000=1.08, 2000=0.999, 5000=0.945, 10000=0.891 (AUD); Operating Temperature Range: - 55 C to + 150 C; Package / Case: 0805 (2012 metric); Packaging: Reel; Product: Precision Resistors Thin Film SMD; Resistance: 49.9 Ohms; Series: PFC; Type: Precision Thin Film Chip Resistor; Brand: IRC / TT Electronics; Case Code - in: 0805; Case Code - mm: 2012; Product Category: 0805 Precision SMD Resistors; Standard Pack Qty: 1000; RoHS - Mouser: Y; Minimum Order Quantity: 1; Reeling: True; ComponentLink1URL: http://www.mouser.com/ds/2/414/pfc-461138.pdf; ComponentLink1Description: http://www.mouser.com/ds/2/414/pfc-461138.pdf; Supplier Part Number 1: 66-PFC08LF49.9-B
footprint 0402
pins: 1, 2

## POWER_JACK
designator J?
Jack Power Right Angle 2conductor; TIIntPartnumber: 2J0008; MfrNum: RAPC712; Mfr: Switchcraft; PartName: PwrJack_RAPC712; Manufacturer: Switchcraft Inc.; Manufacturer Part Number: RAPC712BK; Cost10K: 0.90; Vendor: Digikey; Gender: Male; Plug/Mating Plug Diameter: 2.5mm ID, 5.5mm OD; Number of Positions/Contacts: 2 Conductors, 2 Contacts; Internal Switch(s): Single Switch, Normally Closed; Shielding: Unshielded; Current Rating: 5A; DescriptiveText: Jack Power Right Angle 2conductor; Cost100: 0.90; Descriptive_Text: Jack Power Right Angle 2conductor; Supplier 1: Digi-Key; RoHS: RoHS Compliant; Category: Connectors, Interconnects; Stock 1: 1252; Pricing 1: 1=2.1, 10=1.576, 25=1.442, 100=1.3081, 250=1.18452, 500=0.9991, 1000=0.9167 (USD); Connector Type: Jack; Mounting Type: Through Hole, Right Angle; Termination: Solder Eyelet(s); Features: -; Color: Black; Contact Material: Copper Alloy; Contact Material - Plating: Tin; Housing Color: Black; Housing Material: Thermoplastic; Operating Temperature: -; Voltage - Rated: -; ComponentLink1URL: http://media.digikey.com/PDF/Data%20Sheets/Switchcraft%20PDFs/Jacks%20and%20Plugs%20Brochure.pdf; ComponentLink1Description: http://media.digikey.com/PDF/Data%20Sheets/Switchcraft%20PDFs/Jacks%20and%20Plugs%20Brochure.pdf; Supplier Part Number 1: SC1863-ND
footprint RAPC712
pins: 1, 2, 3

## RES
designator R?
VISHAY DRALORIC - CRCW08051K30FKEA - RESISTOR, 0805, 1K3, 1%, FULL REEL; Product Range: VISHAY - CRCW Series; Resistance: 1.3; Power Rating: 125; Resistor Case Style: 0805 [2012 Metric]; Resistor Element Material: Thick Film; Temperature Coefficient: ± 100; Voltage Rating: 150; SVHC: No SVHC (16-Dec-2013); Reel Quantity: 5000; Resistor Mounting: SMD<!--FANDB--><div class="features-and-benefits-container"></div>; Resistance (Ohms): 1.3k; Power (Watts): 0.125W, 1/8W; Manufacturer: VISHAY DRALORIC; Manufacturer Part Number: CRCW08051K30FKEA; RoHS: Y-EX; Resistance Tolerance: ± 1%; Packaging: Tape & Reel; MSL: MSL 1 - Unlimited; ComponentLink1URL: http://www.farnell.com/datasheets/1697337.pdf; ComponentLink1Description: http://www.farnell.com/datasheets/1697337.pdf; Supplier 1: Digi-Key; Category: Resistors; Stock 1: 15000; Pricing 1: 5000=0.0075, 10000=0.00675, 25000=0.006, 50000=0.005, 100000=0.00415, 250000=0.00375, 500000=0.00338 (USD); Tolerance: ±1%; Composition: Thick Film; Features: Automotive AEC-Q200; Operating Temperature: -55°C ~ 155°C; Package / Case: 0805 (2012 Metric); Supplier Device Package: 0805 (2012 Metric); Size / Dimension: 0.079" L x 0.049" W (2.00mm x 1.25mm); Height: 0.020" (0.50mm); Number of Terminations: 2; ComponentLink2URL: http://www.vishay.com/docs/20035/dcrcwe3.pdf; ComponentLink2Description: http://www.vishay.com/docs/20035/dcrcwe3.pdf; Supplier Part Number 1: 541-1.30KCTR-ND
footprint 0402
pins: 1, 2

## ROMADIN
designator LOGO?
footprint romadin_bottom

## SDTitleBlock
designator *?  (value not drawn)  (graphical)
text: Title:; Page Contents:; Designer:; DWG NO; Revision:; Date:; Sheet; of

## SIMCARD
designator J?
footprint SIMCARD
pins: 1 VCC, 2 RST, 3 CLK, 5 GND, 6 VPP, 7 IO, 22 CD, 23 CD, 32 T, 33 T

## SİM
designator J?
SİM
footprint SIM
pins: 1, 2, 3, 4, 5, 6, 7, 8, 9, SW1, SW2

## SMA CONNECTOR
designator J?
SMA
footprint SMA
pins: 1, 2, 3, 4, 5

## SN74AUP2G08
designator U?
Low Power Dual AND Gate; Mfr: TI; MfrNum: SN74AUP2G08DCU; TIIntPartnumber: 1A0249; Manufacturer: Texas Instruments; Manufacturer Part Number: SN74AUP2G08DCUR; Vendor: Digikey; Cost100: 0.11; Cost10K: 0.05; Number of Circuits: 2; Voltage - Supply: 0.8 V ~ 3.6 V; Current - Quiescent (Max): 0.5µA; Current - Output High, Low: 4mA, 4mA; Logic Level - Low: 0.7 V ~ 0.9 V; Logic Level - High: 1.6 V ~ 2 V; Max Propagation Delay @ V, Max CL: 6.7ns @ 3.3V, 30pF; DescriptiveText: Low Power Dual AND Gate; PartName: SN74AUP2G08; Descriptive_Text: Low Power Dual AND Gate; Supplier 1: Digi-Key; RoHS: RoHS Compliant; Category: Integrated Circuits (ICs); Stock 1: 4923; Pricing 1: 1=0.66, 10=0.578, 25=0.5104, 100=0.4448, 250=0.3872, 500=0.3296, 750=0.288, 1000=0.264 (USD); Packaging: Cut Tape (CT); Logic Type: AND Gate; Number of Inputs: 2; Features: Schmitt Trigger; Operating Temperature: -40°C ~ 85°C; Mounting Type: Surface Mount; Supplier Device Package: US8; Package / Case: 8-VFSOP (0.091", 2.30mm Width); ComponentLink1URL: http://www.ti.com/lit/ds/symlink/sn74aup2g08.pdf; ComponentLink1Description: http://www.ti.com/lit/ds/symlink/sn74aup2g08.pdf; Supplier Part Number 1: 296-32271-1-ND
footprint U_8_DCU
part A pins: 1 2A (in), 2 2B (in), 4 GND (power), 7 2Y (out), 8 VCC (power)
part B pins: 3 2Y (out), 4 GND (power), 5 2A (in), 6 2B (in), 8 VCC (power)

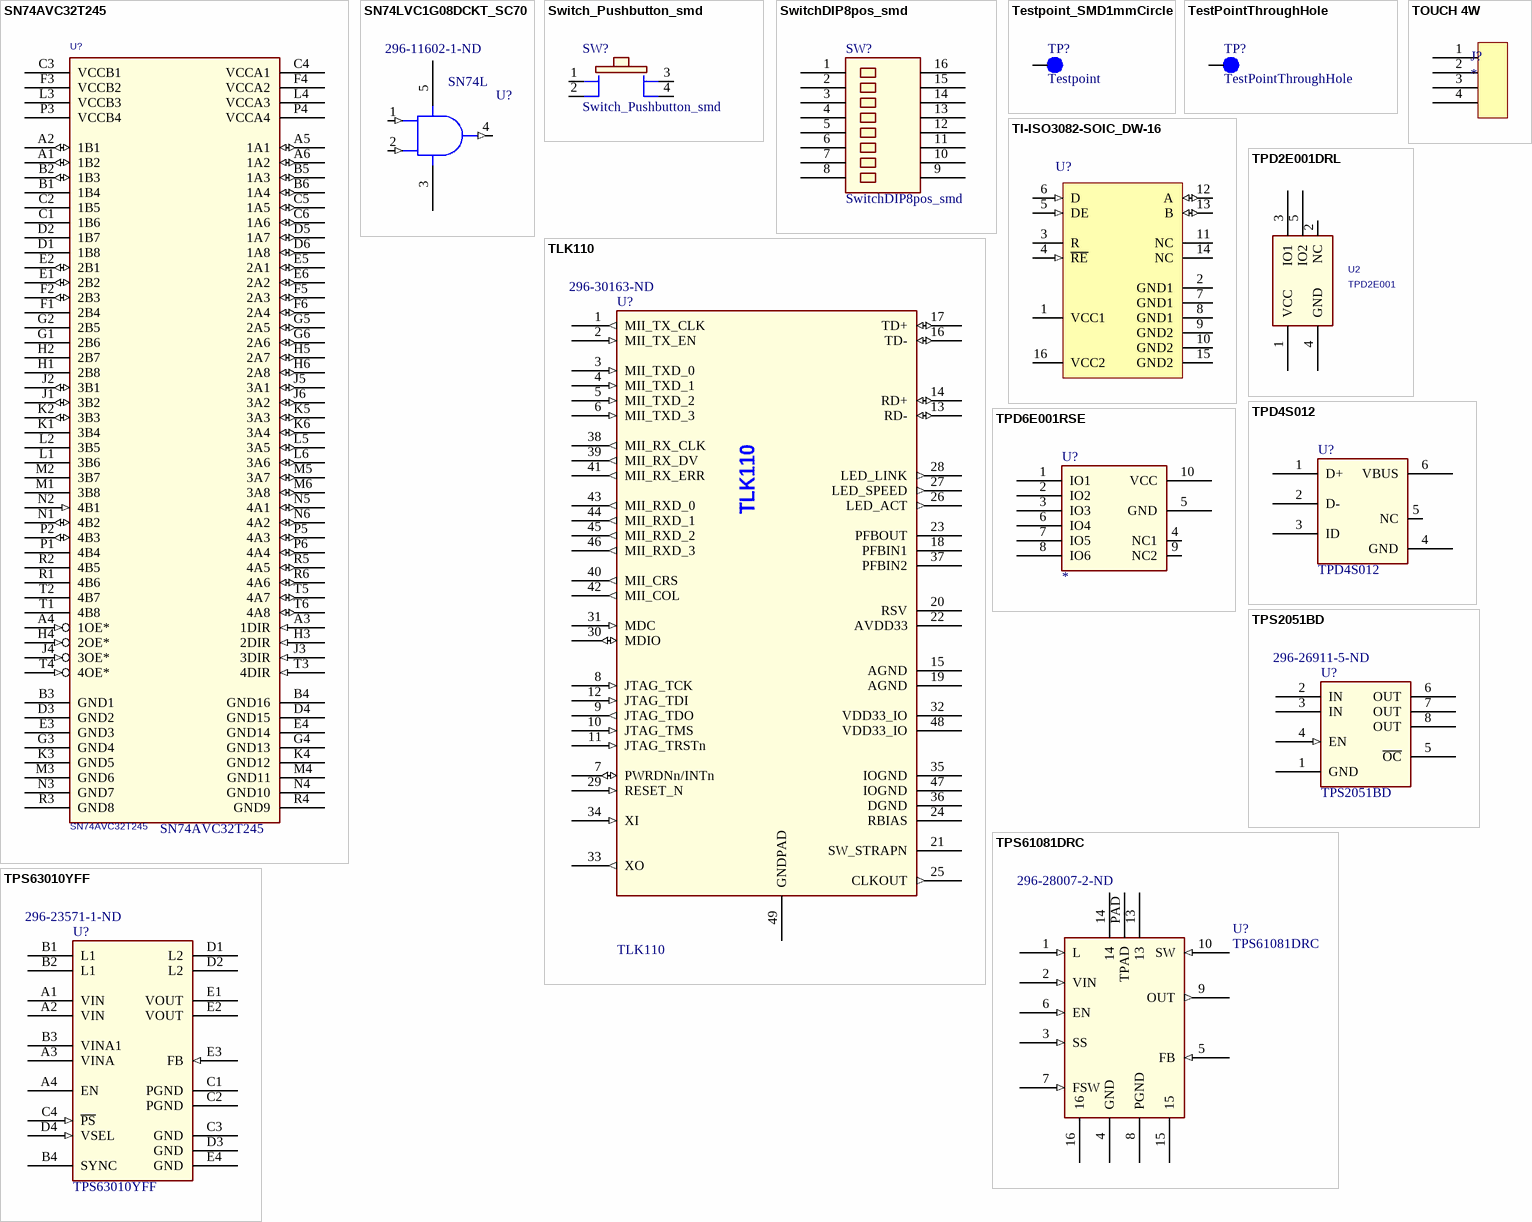
[diagram p6: symbols SN74AVC32T245 to TPS63010YFF]

## SN74AVC32T245
designator U?
32bit Dual Supply Bus Transceiver w/3state outputs; TIIntPartnumber: 1A0273; MfrNum: SN74AVC32T245ZKE; Mfr: TI; Cost10K: 0.63; Cost100: 1.11; Vendor: Digikey; SlotXofY: SYM 1 OF 1; Descriptive_Text: 32bit Dual Supply Bus Transceiver w/3state outputs; PartName: SN74AVC32T245ZKE; Instance: ?; BoardLocation: ?; RefLocation: ?; DescriptiveText: 32bit Dual Supply Bus Transceiver w/3state outputs; Supplier 1: Digi-Key; Supplier Part Number 1: 296-19099-2-ND; SymName: SN74AVC32T245
footprint sm_bga_p8_6x16 (SM_BGA_P8_6X16)
pins: A1 1B2 (io), A2 1B1 (io), A3 1DIR (in), A4 1OE* (in), A5 1A1 (io), A6 1A2 (io), B1 1B4, B2 1B3 (io), B3 GND1 (power), B4 GND16 (power), B5 1A3 (io), B6 1A4 (io), C1 1B6, C2 1B5, C3 VCCB1 (power), C4 VCCA1 (power), C5 1A5 (io), C6 1A6 (io), D1 1B8, D2 1B7, D3 GND2 (power), D4 GND15 (power), D5 1A7 (io), D6 1A8 (io), E1 2B2 (io), E2 2B1 (io), E3 GND3 (power), E4 GND14 (power), E5 2A1 (io), E6 2A2 (io), F1 2B4, F2 2B3 (io), F3 VCCB2 (power), F4 VCCA2 (power), F5 2A3 (io), F6 2A4 (io), G1 2B6, G2 2B5, G3 GND4 (power), G4 GND13 (power), G5 2A5 (io), G6 2A6 (io), H1 2B8, H2 2B7, H3 2DIR (in), H4 2OE* (in), H5 2A7 (io), H6 2A8 (io), J1 3B2 (io), J2 3B1 (io), J3 3DIR (in), J4 3OE* (in), J5 3A1 (io), J6 3A2 (io), K1 3B4, K2 3B3 (io), K3 GND5 (power), K4 GND12 (power), K5 3A3 (io), K6 3A4 (io), L1 3B6, L2 3B5, L3 VCCB3 (power), L4 VCCA3 (power), L5 3A5 (io), L6 3A6 (io), M1 3B8, M2 3B7, M3 GND6 (power), M4 GND11 (power), M5 3A7 (io), M6 3A8 (io), N1 4B2 (io), N2 4B1 (in), N3 GND7 (power), N4 GND10 (power), N5 4A1 (io), N6 4A2 (io), P1 4B4, P2 4B3 (io), P3 VCCB4 (power), P4 VCCA4 (power), P5 4A3 (io), P6 4A4 (io), R1 4B6, R2 4B5, R3 GND8 (power), R4 GND9 (power), R5 4A5 (io), R6 4A6 (io), T1 4B8, T2 4B7, T3 4DIR (in), T4 4OE* (in), T5 4A7 (io), T6 4A8 (io)

## SN74LVC1G08DCKT_SC70
designator U?, comment SN74L  Supplier Part Number 1: 296-11602-1-ND
Single logic AND Gate; PartName: SN74LVC1G08_SC70; Mfr: TI; MfrNum: SN74LVC1G08DCK; TIIntPartnumber: 1A0257; Vendor: Digikey; Cost100: 0.31; Cost10K: 0.05; Descriptive_Text: Single logic AND Gate; DescriptiveText: Single logic AND Gate; Supplier 1: Digi-Key
footprint sm-so-sc70-5 (SM-SO-SC70-5)
pins: 1 A (in), 2 B (in), 3 GND (power), 4 Y (out), 5 VCC (power)

## Switch_Pushbutton_smd
designator SW?
Switch Push Button tactile; TIIntPartnumber: 2W0018; MfrNum: B3SL-1022P; Mfr: Omron; PartName: SwitchPushMomTactilesmd; Cost10K: 0.25; Cost100: 0.340; Vendor: Digikey; DescriptiveText: Switch Push Button tactile; Descriptive_Text: Switch Push Button tactile
footprint SW_B3SL-1022P
pins: 1, 2, 3, 4

## SwitchDIP8pos_smd
designator SW?
DIP Switch 8pos smd; Mfr: CTS Electrocomponents; MfrNum: 219-8MST; TIIntPartnumber: 2W0017; Vendor: Digikey; Cost100: 0.85; Cost10K: 0.38; DescriptiveText: DIP Switch 8pos smd; PartName: SwitchDIP8pos_smd; Descriptive_Text: DIP Switch 8pos smd; Supplier 1: Digi-Key; Supplier Part Number 1: CT2198MST-ND
footprint 219-8MST
pins: 1, 2, 3, 4, 5, 6, 7, 8, 9, 10, 11, 12, 13, 14, 15, 16

## Testpoint_SMD1mmCircle
designator TP?, comment Testpoint
Testpoint SMD; PartName: TestpointSMD1mmCircle; TIIntPartnumber: 2H0046; DescriptiveText: Testpoint SMD 1mm circle pad; Cost100: 0; Mfr: N/A; MfrNum: N/A; Vendor: N/A; Cost10K: 0; Descriptive_Text: Testpoint SMD 1mm circle pad
footprint tp_smd1mmcircle
pins: 1

## TestPointThroughHole
designator TP?
Testpoint TH; Mfr: Keystone Electronics; MfrNum: 5002; TIIntPartnumber: 2H0026; DescriptiveText: Testpoint Miniature Through Hole; Vendor: Digikey; Cost100: 0.163; Cost10K: 0.079; PartName: TestPointThroughHole; Descriptive_Text: Testpoint Miniature Through Hole
footprint tp_smd1mmcircle (TP_SMD1MMCIRCLE)
pins: 1

## TI-ISO3082-SOIC_DW-16
designator U?
Manufacturer: Texas Instruments; Manufacturer Part Number: ISO3082DWR; Isolated Power: Yes; Number of Channels: 3; Inputs - Side 1/Side 2: 2/1; Channel Type: Unidirectional; Voltage - Isolation: 4000Vpk; Common Mode Transient Immunity (Min): 25kV/µs; Data Rate: 200Kbps; Pulse Width Distortion (Max): 200ns, 200ns; Voltage - Supply: 3.15 V ~ 5.5 V, 4.5 V ~ 5.5 V; Supplier 1: Digi-Key; RoHS: RoHS Compliant; Category: Isolators; Stock 1: 487; Pricing 1: 1=6.74, 10=6.037, 25=5.4288, 100=4.9374, 250=4.4694, 500=4.0014, 750=3.627, 1000=3.3696 (USD); Packaging: Cut Tape (CT); Technology: Capacitive Coupling; Type: RS422, RS485; Propagation Delay tpLH / tpHL (Max): -; Rise / Fall Time (Typ): -; Operating Temperature: -40°C ~ 85°C; Package / Case: 16-SOIC (0.295", 7.50mm Width); Supplier Device Package: 16-SOIC; ComponentLink1URL: http://www.ti.com/lit/ds/symlink/iso3082.pdf; ComponentLink1Description: http://www.ti.com/lit/ds/symlink/iso3082.pdf; Supplier Part Number 1: 296-37891-1-ND
footprint DW16_L (SOIC, 16-Leads, Body 10.3x7.5mm, Pitch 1.27mm, IPC High Density)
pins: 1 VCC1 (power), 2 GND1 (power), 3 R (hiz), 4 ~{RE} (in), 5 DE (in), 6 D (in), 7 GND1 (power), 8 GND1 (power), 9 GND2 (power), 10 GND2 (power), 11 NC, 12 A (io), 13 B (io), 14 NC, 15 GND2 (power), 16 VCC2 (power)

## TLK110
designator U?  Supplier Part Number 1: 296-30163-ND
Industrial Ethernet 10/100 Mb/s PHY Transceiver; TIIntPartnumber: 1A0291; MfrNum: TLK110PT; Mfr: TI; Cost10K: 2.31; Cost100: 5.01; Vendor: Digikey; Descriptive_Text: Industrial Ethernet 10/100 Mb/s PHY Transceiver; PartName: TLK110; DescriptiveText: Industrial Ethernet 10/100 Mb/s PHY Transceiver; Supplier 1: Digi-Key
footprint HTQFP_48pin
pins: 1 MII_TX_CLK (out), 2 MII_TX_EN (in), 3 MII_TXD_0 (in), 4 MII_TXD_1 (in), 5 MII_TXD_2 (in), 6 MII_TXD_3 (in), 7 PWRDNn/INTn (io), 8 JTAG_TCK (in), 9 JTAG_TDO (out), 10 JTAG_TMS (in), 11 JTAG_TRSTn (in), 12 JTAG_TDI (in), 13 RD- (io), 14 RD+ (io), 15 AGND (power), 16 TD- (io), 17 TD+ (io), 18 PFBIN1 (power), 19 AGND (power), 20 RSV, 21 SW_STRAPN, 22 AVDD33 (power), 23 PFBOUT (power), 24 RBIAS, 25 CLKOUT (out), 26 LED_ACT (out), 27 LED_SPEED (out), 28 LED_LINK (out), 29 RESET_N (in), 30 MDIO (io), 31 MDC (in), 32 VDD33_IO (power), 33 XO (out), 34 XI (in), 35 IOGND (power), 36 DGND (power), 37 PFBIN2 (power), 38 MII_RX_CLK (out), 39 MII_RX_DV (out), 40 MII_CRS (out), 41 MII_RX_ERR (out), 42 MII_COL (out), 43 MII_RXD_0 (out), 44 MII_RXD_1 (out), 45 MII_RXD_2 (out), 46 MII_RXD_3 (out), 47 IOGND (power), 48 VDD33_IO (power), 49 GNDPAD (power)

## TOUCH 4W
designator J?
MOLEX - 52207-0460 - SOCKET ZIF, 1MM, 4WAY; Gender: Receptacle; Pitch Spacing: 1; No. of Contacts: 4; FFC/FPC Thickness: 0.3; Contact Termination Type: Surface Mount; Contact Position: Top; Contact Termination: Surface Mount Right Angle; Flat Flex Type: FFC, FPC; Connector/Contact Type: Contacts, Top; Pitch: 0.039" (1.00mm); FFC, FCB Thickness: 0.30mm; Locking Feature: Slide Lock; Cable End Type: Tapered; Actuator Material: Polyphenylene Sulfide (PPS); Voltage Rating: 125V; Material Flammability Rating: UL94 V-0; Current Rating: 1A; Manufacturer: MOLEX; Manufacturer Part Number: 52207-0460; RoHS: YES; Series: -; No. of Rows: 1; Contact Plating: Gold; Contact Material: Phosphor Bronze; Packaging: Cut Tape<!--FANDB--><div class="features-and-benefits-container"><div class="features-and-benefits-desc-container"><span class="features-and-benefits-container-desc">FFC/FPC Connector, Right-Angle, SMT, ZIF, Top Contact Style Receptacle, 4 Way</span></div><div class="features-and-benefits-list"><ul class="features-and-benefits-list-list"><li class="features-and-benefits-list-item">Robust solder tabs (nails)</li><li class="features-and-benefits-list-item">ZIF and LIF options</li><li class="features-and-benefits-list-item">Robust terminal and actuator designs</li></ul></div></div>; ComponentLink1URL: http://www.farnell.com/cad/1771235.pdf; ComponentLink1Description: http://www.farnell.com/cad/1771235.pdf; ComponentLink2URL: http://www.farnell.com/datasheets/1783888.pdf; ComponentLink2Description: http://www.farnell.com/datasheets/1783888.pdf; Supplier 1: Digi-Key; Category: Connectors, Interconnects; Stock 1: 5941; Pricing 1: 1=1, 10=0.879, 25=0.8268, 50=0.7924, 100=0.7579, 250=0.68904, 500=0.62014 (USD); Mounting Type: Surface Mount, Right Angle; Number of Positions: 4; Termination: Solder; Height Above Board: 0.106" (2.70mm); Contact Finish: Gold; Housing Material: Polyamide (PA46), Nylon 4/6; Features: Solder Retention, Zero Insertion Force (ZIF); Operating Temperature: -30°C ~ 85°C; ComponentLink3URL: http://www.molex.com/pdm_docs/sd/522070460_sd.pdf; ComponentLink3Description: http://www.molex.com/pdm_docs/sd/522070460_sd.pdf; Supplier Part Number 1: WM3749CT-ND
footprint TSC (CNFPC1X40-0P5MM)
pins: 1, 2, 3, 4

## TPD2E001DRL
designator U2, comment TPD2E001
TIIntPartnumber: 1A0247; MfrNum: TPD2E001DRL; Mfr: TI; Cost10K: 0.07; Cost100: 0.31; Vendor: Digikey; DescriptiveText: ESD Protection Array 2Chan +-15kV; PartName: TPD2E001; Supplier 1: Digi-Key; Supplier Part Number 1: 296-35960-1-ND
footprint U_5_DRL
pins: 1 VCC (power), 2 NC, 3 IO1, 4 GND (power), 5 IO2

## TPD4S012
designator U?
ESD 4channel USB Interface; Mfr: TI; MfrNum: TPD4S012DRY; TIIntPartnumber: 1A0233; Vendor: Digikey; Cost100: 0.76; Cost10K: 0.23; DescriptiveText: ESD 4channel USB Interface; PartName: TPD4S012; Descriptive_Text: ESD 4channel USB Interface; Supplier 1: Digi-Key; Supplier Part Number 1: 296-24244-1-ND
footprint U_6_DRY
pins: 1 D+, 2 D-, 3 ID, 4 GND (power), 5 NC, 6 VBUS (power)

## TPD6E001RSE
designator U?
ESD Protection Array 6Chan +-15kV; TIIntPartnumber: 1A0248; MfrNum: TPD6E001RSE; Mfr: TI; PartName: TPD6E001; Cost10K: 0.11; Cost100: 0.42; Vendor: Digikey; Descriptive_Text: ESD Protection Array 6Chan +-15kV; DescriptiveText: ESD Protection Array 6Chan +-15kV; Supplier 1: Digi-Key; Supplier Part Number 1: 296-21888-1-ND
footprint U_10_RSE
pins: 1 IO1, 2 IO2, 3 IO3, 4 NC1, 5 GND (power), 6 IO4, 7 IO5, 8 IO6, 9 NC2, 10 VCC (power)

## TPS2051BD
designator U?  Supplier Part Number 1: 296-26911-5-ND
Power Distribution Switch Current Limited 500mA; Mfr: TI; TIIntPartnumber: 1A0286; Vendor: Digikey; Cost100: 1.70; Cost10K: 0.39; DescriptiveText: Power Distribution Switch Current Limited 500mA; PartName: TPS2051BD; MfrNum: TPS2051BD; Descriptive_Text: Power Distribution Switch Current Limited 500mA; Supplier 1: Digi-Key
footprint U_8_D
pins: 1 GND (power), 2 IN (power), 3 IN (power), 4 EN (in), 5 ~{OC} (oc), 6 OUT (power), 7 OUT (power), 8 OUT (power)

## TPS61081DRC
designator U?  Supplier Part Number 1: 296-28007-2-ND
Regulator WLED Driver 1.3A; TIIntPartnumber: 1A0270; Mfr: TI; Cost10K: 0.63; Cost100: 1.11; Vendor: Digikey; Descriptive_Text: Regulator WLED Driver 1.3A; MfrNum: TPS61081DRC; PartName: TPS61081DRC; DescriptiveText: Regulator WLED Driver 1.3A; Supplier 1: Digi-Key
footprint u_10_drc
pins: 1 L (in), 2 VIN (in), 3 SS (in), 4 GND (power), 5 FB (in), 6 EN (in), 7 FSW (in), 8 PGND (power), 9 OUT (out), 10 SW (in), 13, 14, 15, 16, PAD TPAD (power)

## TPS63010YFF
designator U?  Supplier Part Number 1: 296-23571-1-ND
Buck-Boost Converter with 2A Switches; Mfr: TI; TIIntPartnumber: 1A0287; Vendor: Digikey; Cost100: 1.70; Cost10K: 0.39; DescriptiveText: Buck-Boost Converter with 2A Switches; PartName: TPS63010; MfrNum: TPS63010YFF; Descriptive_Text: Buck-Boost Converter with 2A Switches; Supplier 1: Digi-Key
footprint u_20_dsbga
pins: A1 VIN (power), A2 VIN (power), A3 VINA (power), A4 EN, B1 L1 (power), B2 L1 (power), B3 VINA1, B4 SYNC, C1 PGND (power), C2 PGND (power), C3 GND (power), C4 ~{PS} (in), D1 L2 (power), D2 L2 (power), D3 GND (power), D4 VSEL (in), E1 VOUT (power), E2 VOUT (power), E3 FB (in), E4 GND (power)

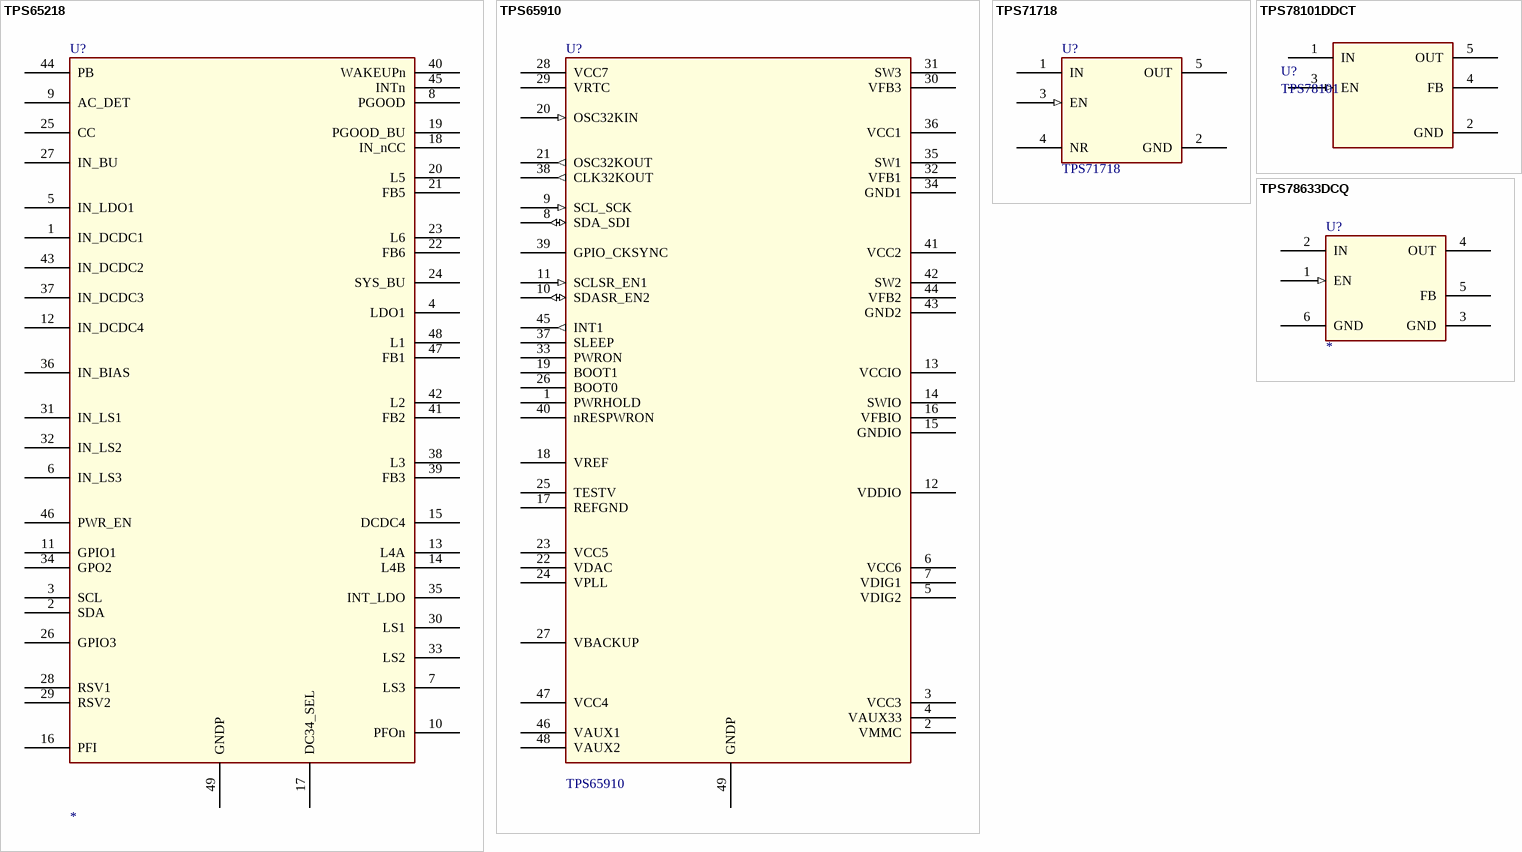
[diagram p7: symbols TPS65218 to TPS78633DCQ]